# Altium footprint library symbols.PcbLib: 5 footprints
Each footprint in its own frame and in the unit in brackets; x right, y up, seen from the top. Pads: shape width x height; smd on the part's side, far side on the other; paste and mask are expansions set on the pad; w line width, h text height; cw(c..) or ccw(c..) is an arc to the next point about the centre after c.
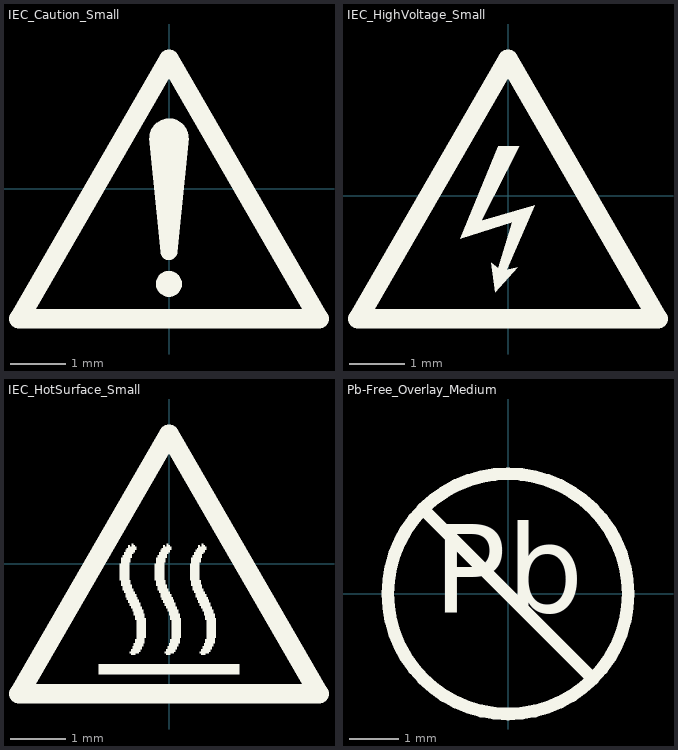
[diagram p0: the footprints below, top view; thin cyan lines are the x and y axes]

## IEC_Caution_Small [mm]
Top Overlay:
  circle w0.254: c0,-1.727 r0.108
  circle w0.356: c0,0.914 r0.178
  circle w0.254: c0,-1.143 r0.025
  region: -0.356,0.914 0.356,0.914 0.152,-1.143 -0.152,-1.143
  lines w0.356: -2.718,-2.362 0,2.345 2.718,-2.362 -2.718,-2.362

## IEC_HighVoltage_Small [mm]
Top Overlay:
  region: -0.178,0.889 0.203,0.889 -0.483,-0.457 0.483,-0.178 -0.025,-1.346 0.178,-1.295 -0.229,-1.753 -0.305,-1.219 -0.178,-1.321 0.076,-0.483 -0.864,-0.787
  lines w0.356: -2.718,-2.235 0,2.472 2.718,-2.235 -2.718,-2.235

## IEC_HotSurface_Small [mm]
Top Overlay:
  drawing of 10 lines, arcs and shapes, not listed

## Logo1 [mm]

## Pb-Free_Overlay_Medium [mm]
Top Overlay:
  circle w0.254: c0,0 r2.413
  lines w0.254: -1.706,1.706 1.706,-1.706
  text "Pb" at -1.505,-0.961 h3.05